# EAGLE library part BNO055 (library HyTechDevices-ltc4421 components)
9-DOF IMU Quaternion Gravity Linear Acceleration Robust Heading Rotation See datasheet <https://cdn-shop.adafruit.com/datasheets/BST_BNO055_DS000_12.pdf>
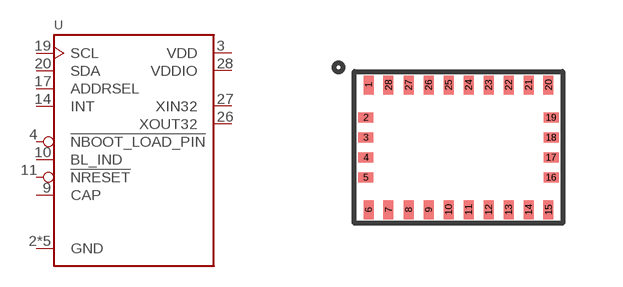
[diagram p31: symbol with the pads of QFN_BNO055; footprint QFN_BNO055]

Designator prefix U

## BNO055-SURFACE-MOUNT  [QFN_BNO055]
2  GND  pas
3  VDD  pwr
4  !NBOOT_LOAD_PIN  in
5  GND  pas
6  GND  pas
9  CAP  pas
10  BL_IND  out
11  !NRESET  pas
14  INT  out
17  ADDRSEL  in
18  GND  pas
19  SCL
20  SDA
25  GND  pas
26  XOUT32  out
27  XIN32  in
28  VDDIO  pwr

## Footprint QFN_BNO055 (pad centres in mm)
BNO055 Package Datasheet <https://www.mouser.com/datasheet/2/783/BST_BNO055_DS000-1509603.pdf> Note: Based off of Page 112.
smd 0.25 x 0.475: 1 -2.25,1.562; 6 -2.25,-1.562; 7 -1.75,-1.562; 8 -1.25,-1.562; 9 -0.75,-1.562; 10 -0.25,-1.562; 11 0.25,-1.562; 12 0.75,-1.562; 13 1.25,-1.562; 14 1.75,-1.562; 15 2.25,-1.562; 20 2.25,1.562; 21 1.75,1.562; 22 1.25,1.562; 23 0.75,1.562; 24 0.25,1.562; 25 -0.25,1.562; 26 -0.75,1.562; 27 -1.25,1.562; 28 -1.75,1.562
smd 0.375 x 0.25: 2 -2.312,0.75; 3 -2.312,0.25; 4 -2.312,-0.25; 5 -2.312,-0.75; 16 2.312,-0.75; 17 2.312,-0.25; 18 2.312,0.25; 19 2.312,0.75